# Altium schematic symbol library USBLC6-4.SchLib: 1 symbol
Pins are listed as number, name and electrical type; pins without a type are passive.

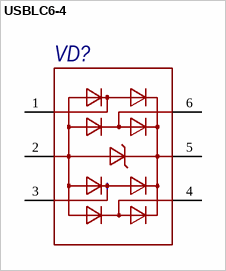
[diagram p0: symbol USBLC6-4]

## USBLC6-4
designator VD?, comment ESDALC6V1W5  (value not drawn)
Сборка 6 защитных диодов; ComponentLink1Description: Shop; ComponentLink1URL: https://www.chipdip.ru/product0/8001780508
footprint SOT23-6
pins: 1 9, 2 10, 3 11, 4 12, 5 13, 6 14